# Altium schematic symbol library Symbol_library.SCHLIB: 171 symbols (part 2 of 2)
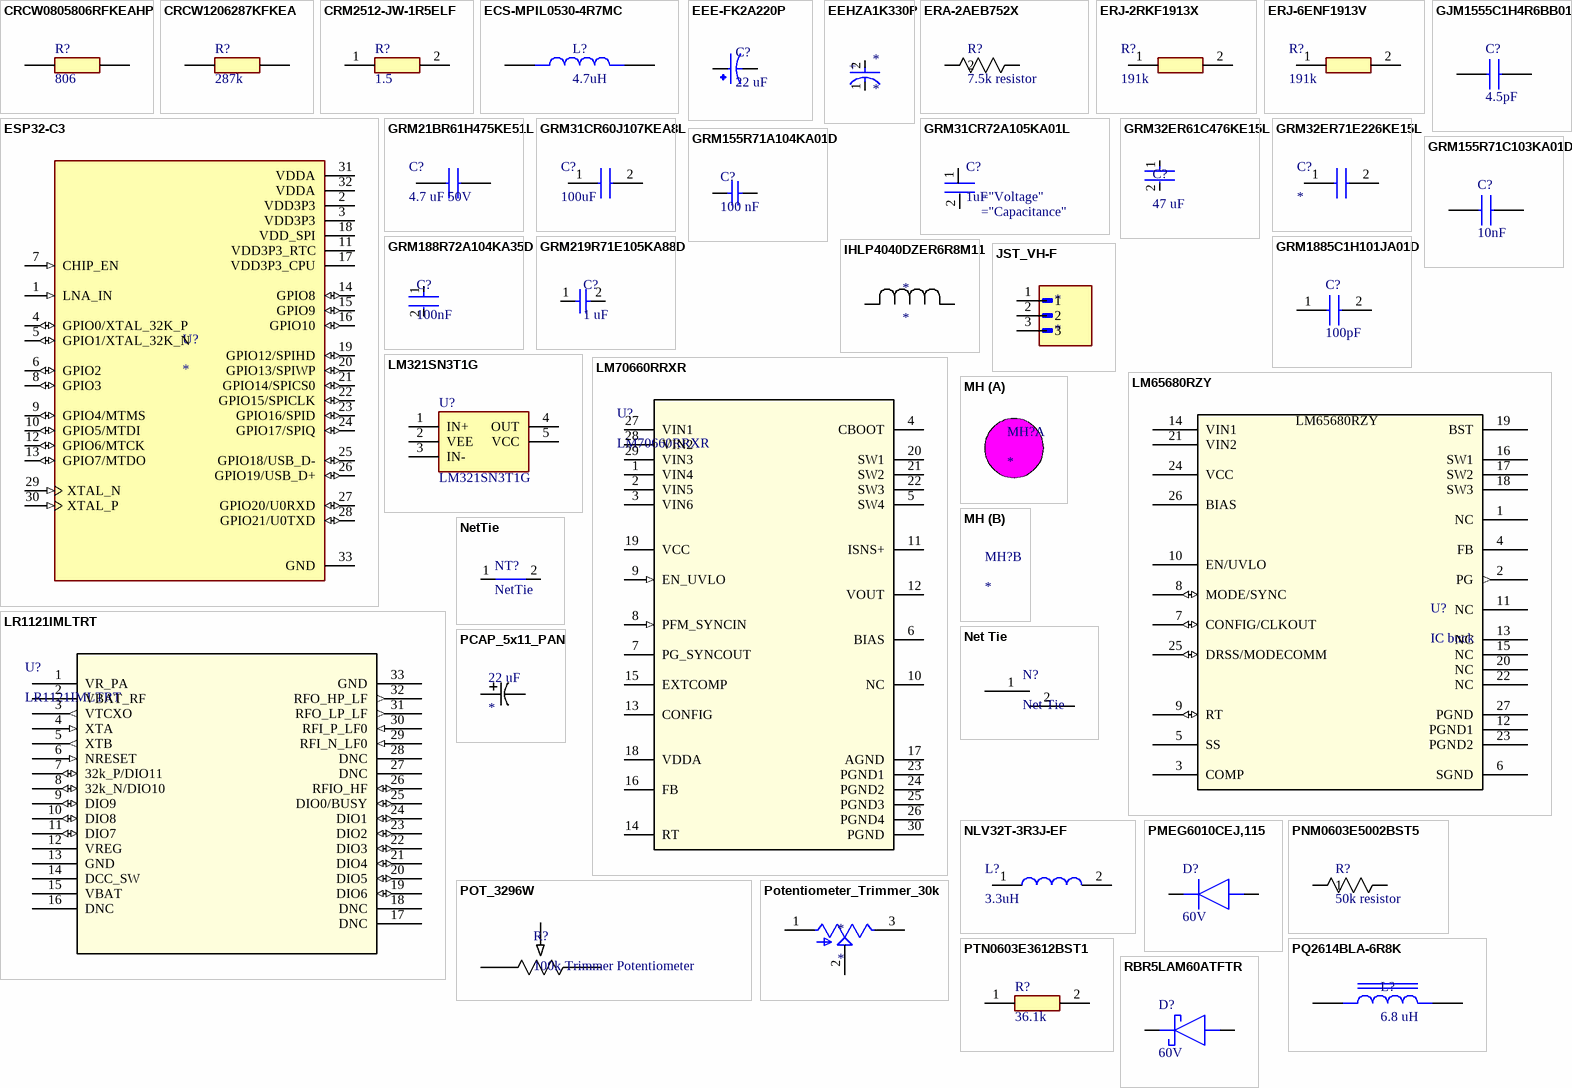
[diagram p5: symbols CRCW0805806RFKEAHP to RBR5LAM60ATFTR]

## PTN0603E3612BST1
designator R?, comment 36.1k
Resistor; Manufacturer_Name: Vishay; Manufacturer_Part_Number: PTN0603E3612BST1; Datasheet Link: http://www.vishay.com/docs/60026/ptn.pdf; Height: 0.508mm
footprint RESC1608X51N
pins: 1, 2

## RBR5LAM60ATFTR
designator D?, comment 60V
Schottky Diode; Manufacturer_Name: ROHM Semiconductor; Manufacturer_Part_Number: RBR5LAM60ATFTR; Datasheet Link: https://fscdn.rohm.com/en/products/databook/datasheet/discrete/diode/schottky_barrier/rbr5lam60atftr-e.pdf; Height: 1.05mm; Mouser Part Number: 755-RBR5LAM60ATFTR; Mouser Price/Stock: https://www.mouser.co.uk/ProductDetail/ROHM-Semiconductor/RBR5LAM60ATFTR?qs=4v%252BiZTmLVHGKJkO8tMW4zA%3D%3D; ClassName: PowerModul
footprint SODFL4725X105N
pins: 1 K, 2 A

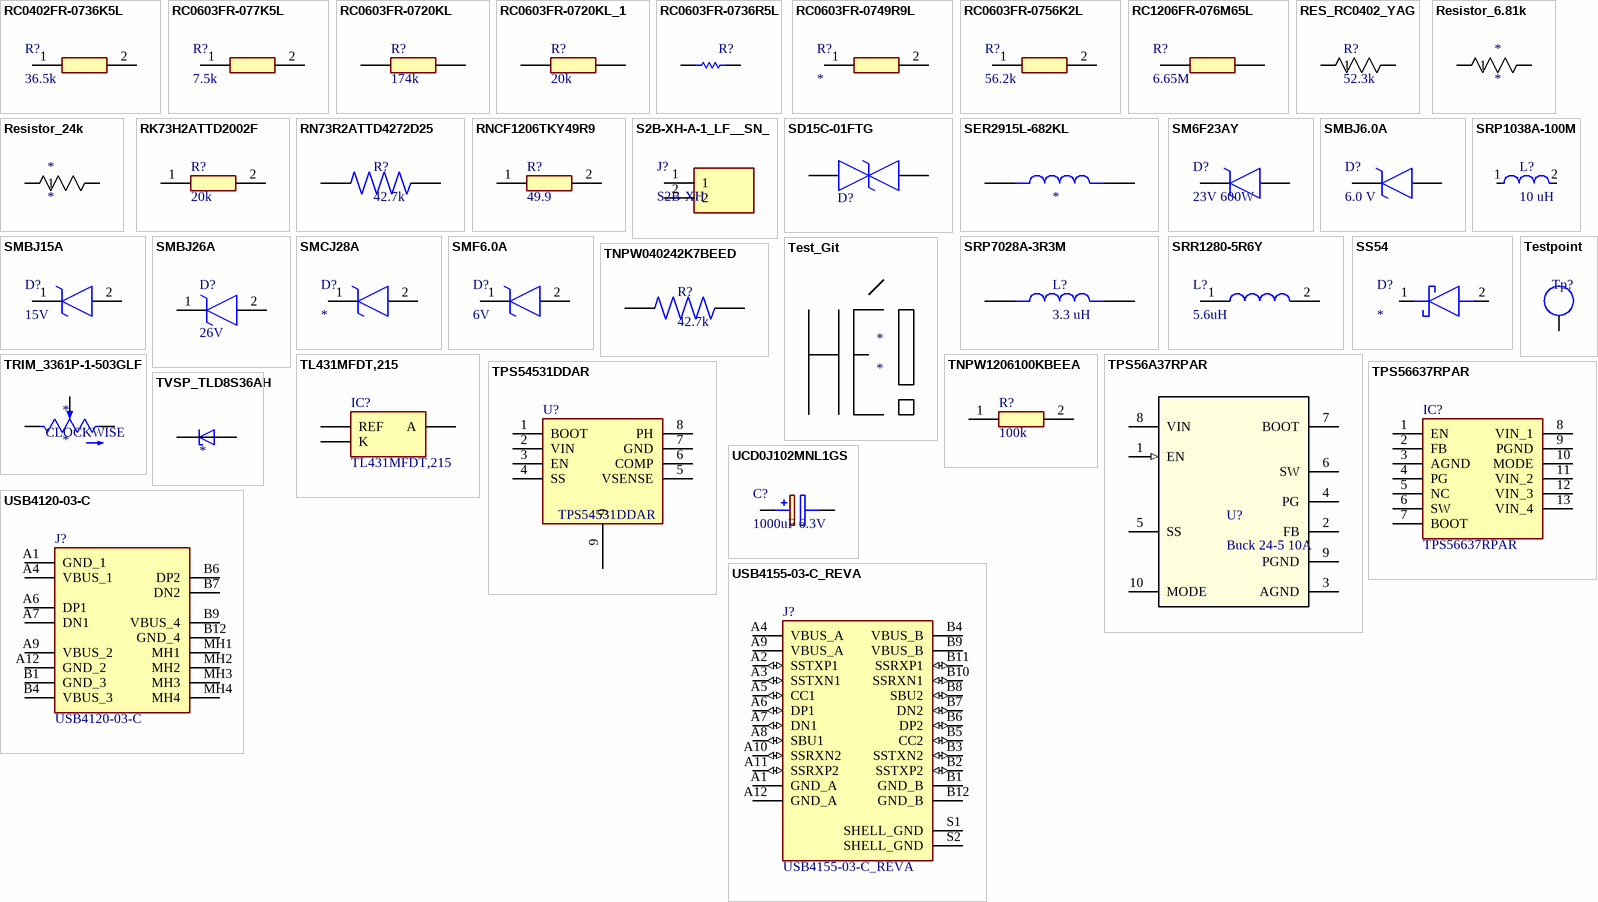
[diagram p3: symbols RC0402FR-0736K5L to USB4155-03-C_REVA]

## RC0402FR-0736K5L
designator R?, comment 36.5k
Resistor; Manufacturer_Name: KEMET; Manufacturer_Part_Number: RC0402FR-0736K5L; Datasheet Link: http://www.yageo.com/documents/recent/PYu-RC0402_51_RoHS_L_6_r.pdf; Height: 0.4mm; Mouser Part Number: 603-RC0402FR-0736K5L; Mouser Price/Stock: https://www.mouser.com/Search/Refine.aspx?Keyword=603-RC0402FR-0736K5L
footprint RESC1005X40N
pins: 1, 2

## RC0603FR-077K5L
designator R?, comment 7.5k
Resistor; Manufacturer_Name: KEMET; Manufacturer_Part_Number: RC0603FR-077K5L; Datasheet Link: http://www.yageo.com/documents/recent/PYu-RC0603_51_RoHS_L_v5.pdf; Height: 0.55mm; Mouser Part Number: 603-RC0603FR-077K5L; Mouser Price/Stock: https://www.mouser.co.uk/ProductDetail/Yageo/RC0603FR-077K5L/?qs=2cAdsCoAWREF%252BylA0TXaCQ%3D%3D
footprint RESC1608X55N
pins: 1, 2

## RC0603FR-0720KL
designator R?, comment 174k
Resistor; Manufacturer_Name: KEMET; Manufacturer_Part_Number: RC0603FR-0720KL; Datasheet Link: http://www.yageo.com/documents/recent/PYu-RC0603_51_RoHS_L_v5.pdf; Height: 0.55mm; Mouser Part Number: 603-RC0603FR-0720KL; Mouser Price/Stock: https://www.mouser.co.uk/ProductDetail/YAGEO/RC0603FR-0720KL?qs=VU8sRB4EgwCsxfrjtEIKPQ%3D%3D; Arrow Part Number: RC0603FR-0720KL; Arrow Price/Stock: https://www.arrow.com/en/products/rc0603fr-0720kl/yageo
footprint RESC1608X55N
pins: 1, 2

## RC0603FR-0720KL_1
designator R?, comment 20k
Resistor; Manufacturer_Name: KEMET; Manufacturer_Part_Number: RC0603FR-0720KL; Datasheet Link: http://www.yageo.com/documents/recent/PYu-RC0603_51_RoHS_L_v5.pdf; Height: 0.55mm; Mouser Part Number: 603-RC0603FR-0720KL; Mouser Price/Stock: https://www.mouser.co.uk/ProductDetail/YAGEO/RC0603FR-0720KL?qs=VU8sRB4EgwCsxfrjtEIKPQ%3D%3D; Arrow Part Number: RC0603FR-0720KL; Arrow Price/Stock: https://www.arrow.com/en/products/rc0603fr-0720kl/yageo
footprint RESC1608X55N
pins: 1, 2

## RC0603FR-0736R5L
designator R?
36.5 Ohm
footprint RC0603FR-0736R5L
pins: 1, 2

## RC0603FR-0749R9L
designator R?
Resistor; Manufacturer_Name: Yageo Group; Manufacturer_Part_Number: RC0603FR-0749R9L; Datasheet Link: https://www.yageo.com/upload/media/product/productsearch/datasheet/rchip/PYu-RC_Group_51_RoHS_L_12.pdf; Height: 0.55mm; Mouser Part Number: 603-RC0603FR-0749R9L; Mouser Price/Stock: https://www.mouser.co.uk/ProductDetail/YAGEO/RC0603FR-0749R9L?qs=NEN%2FsE%2FLsvNRW8WFDtCPgQ%3D%3D; Arrow Part Number: RC0603FR-0749R9L; Arrow Price/Stock: https://www.arrow.com/en/products/rc0603fr-0749r9l/yageo?region=europe
footprint RESC1608X55N
pins: 1, 2

## RC0603FR-0756K2L
designator R?, comment 56.2k
Resistor; Manufacturer_Name: KEMET; Manufacturer_Part_Number: RC0603FR-0756K2L; Datasheet Link: http://www.yageo.com/documents/recent/PYu-RC0603_51_RoHS_L_v5.pdf; Height: 0.55mm; Mouser Part Number: 603-RC0603FR-0756K2L; Mouser Price/Stock: https://www.mouser.com/Search/Refine.aspx?Keyword=603-RC0603FR-0756K2L; Arrow Part Number: RC0603FR-0756K2L; Arrow Price/Stock: https://www.arrow.com/en/products/rc0603fr-0756k2l/yageo
footprint RESC1608X55N
pins: 1, 2

## RC1206FR-076M65L
designator R?, comment 6.65M
Resistor; Manufacturer_Name: YAGEO; Manufacturer_Part_Number: RC1206FR-076M65L; Datasheet Link: https://www.mouser.com/datasheet/2/447/PYu-RC_Group_51_RoHS_L_9-1314892.pdf; Height: 0.65mm
footprint RESC3116X65N (Footprint not found)
pins: 1, 2

## RES_RC0402_YAG
designator R?, comment 52.3k
52.3k Resistor 50 V 1% tolerance; ComponentLink1Description: Digikey Link; ComponentLink1URL: https://www.digikey.ca/en/products/detail/yageo/RC0402FR-0752K3L/5281039
footprint RES_RC0402_YAG
pins: 1, 2

## Resistor_6.81k
designator *
ComponentLink1Description: New link; ComponentLink1URL: *; ComponentLink2Description: Manufacturer Link; ComponentLink2URL: https://www.digikey.ca/en/products/detail/yageo/MFR-25FRF52-6K81/14969
footprint RES_MFR25_6P3X2P4_YAG
pins: 1, 2

## Resistor_24k
designator *
ComponentLink1Description: Manufacturer Link; ComponentLink1URL: https://www.digikey.ca/en/products/detail/stackpole-electronics-inc/CF14JT24K0/1741359
footprint STA_CF14_STP
pins: 1, 2

## RK73H2ATTD2002F
designator R?, comment 20k
Resistor; Manufacturer_Name: KOA Speer; Manufacturer_Part_Number: RK73H2ATTD2002F; Datasheet Link: http://www.koaspeer.com/catimages/Products/RK73H/RK73H.pdf; Height: 0.6mm; Mouser Part Number: 660-RK73H2ATTD2002F; Mouser Price/Stock: https://www.mouser.com/Search/Refine.aspx?Keyword=660-RK73H2ATTD2002F
footprint RESC2012X60N
pins: 1, 2

## RN73R2ATTD4272D25
designator R?, comment 42.7k
MP: RN73R2ATTD4272D25; Package: None; Price: None; Value: *; Availability: Unavailable
footprint RESC2012X60N
pins: 1, 2

## RNCF1206TKY49R9
designator R?, comment 49.9
Resistor; Manufacturer_Name: Stackpole Electronics; Manufacturer_Part_Number: RNCF1206TKY49R9; Datasheet Link: https://www.seielect.com/catalog/sei-rncf.pdf; Height: 0.65mm; Mouser Part Number: 708-RNCF1206TKY49R9; Mouser Price/Stock: https://www.mouser.co.uk/ProductDetail/SEI-Stackpole/RNCF1206TKY49R9?qs=IPgv5n7u5QbrkyDMq71eTQ%3D%3D; Arrow Part Number: RNCF1206TKY49R9; Arrow Price/Stock: https://www.arrow.com/en/products/rncf1206tky49r9/stackpole-electronics?region=nac
footprint RESC3016X65N
pins: 1, 2

## S2B-XH-A-1_LF__SN_
designator J?, comment S2B-XH
horizontal 2 pin; Manufacturer_Name: JST (JAPAN SOLDERLESS TERMINALS); Manufacturer_Part_Number: S2B-XH-A-1(LF)(SN); Datasheet Link: http://www.jst-mfg.com/product/pdf/eng/eXH.pdf; Height: 6.1mm; Mouser Part Number: 306-S2BXHA1LFSN; Mouser Price/Stock: https://www.mouser.co.uk/ProductDetail/JST-Commercial/S2B-XH-A-1LFSN?qs=QpmGXVUTftHhNeC%252BPQWeTw%3D%3D
footprint S2BXHA1LFSN
pins: 1, 2

## SD15C-01FTG
designator D?  (value not drawn)
TVS Diode (Bi-directional); Manufacturer_Name: LITTELFUSE; Datasheet Link: https://www.arrow.com/en/products/sd15c-01ftg/littelfuse; Height: 1.14mm; Manufacturer_Part_Number: SD15C-01FTG; Mouser Part Number: 576-SD15C-01FTG; Mouser Price/Stock: https://www.mouser.co.uk/ProductDetail/Littelfuse/SD15C-01FTG?qs=4zl93aaztU8pjSvpxpJP6g%3D%3D; Arrow Part Number: SD15C-01FTG; Arrow Price/Stock: https://www.arrow.com/en/products/sd15c-01ftg/littelfuse?region=nac
footprint SD15C01FTG
pins: 1, 2

## SER2915L-682KL
designator ?
footprint SER2915L-682
pins: 1, 2

## SM6F23AY
designator D?, comment 23V 600W
TVS Diode (Uni-directional); Manufacturer_Name: STMicroelectronics; Manufacturer_Part_Number: SM6F23AY; Datasheet Link: https://www.st.com/resource/en/datasheet/sm6f10ay.pdf; Height: 1.03mm; Mouser Part Number: 511-SM6F23AY; Mouser Price/Stock: https://www.mouser.co.uk/ProductDetail/STMicroelectronics/SM6F23AY?qs=BJlw7L4Cy79cZKdhit2Bog%3D%3D
footprint SM6F22AY
pins: 1 K, 2 A

## SMBJ6.0A
designator D?, comment 6.0 V
TVS Diode (Uni-directional); Manufacturer_Name: STMicroelectronics; Manufacturer_Part_Number: SMBJ6.0A; Datasheet Link: https://www.st.com/resource/en/datasheet/smbj12a.pdf; Height: 2.45mm
footprint SMBJ12A
pins: 1 K, 2 A

## SMBJ15A
designator D?, comment 15V
TVS Diode (Uni-directional); Manufacturer_Name: Vishay; Manufacturer_Part_Number: SMBJ15A; Datasheet Link: http://www.vishay.com/docs/88392/smbj.pdf; Height: 2.44mm; Mouser Part Number: 78-SMBJ15A; Mouser Price/Stock: https://www.mouser.co.uk/ProductDetail/Vishay-General-Semiconductor/SMBJ15A?qs=%252BA9HMDDz5KavBY56EO7ceQ%3D%3D
footprint DIOM5436X244N
pins: 1 K, 2 A

## SMBJ26A
designator D?, comment 26V
TVS Diode (Uni-directional); Manufacturer_Name: Bourns; Manufacturer_Part_Number: SMBJ26A; Datasheet Link: https://www.bourns.com/docs/product-datasheets/smbj.pdf?sfvrsn=34552159_17; Height: 2.44mm; Mouser Part Number: 652-SMBJ26A; Mouser Price/Stock: https://www.mouser.co.uk/ProductDetail/Bourns/SMBJ26A?qs=%252Bf8Cd6aE5bzyuNXx4QjGJA%3D%3D; Arrow Part Number: SMBJ26A; Arrow Price/Stock: https://www.arrow.com/en/products/smbj26a/bourns?utm_currency=USD&region=nac
footprint DIOM5436X244N (Footprint not found)
pins: 1 K, 2 A

## SMCJ28A
designator D?
TVS Diode (Uni-directional); Manufacturer_Name: Bourns; Manufacturer_Part_Number: SMCJ28A; Datasheet Link: https://componentsearchengine.com/Datasheets/2/SMCJ28A.pdf; Height: 2.62mm; Mouser Part Number: 652-SMCJ28A; Mouser Price/Stock: https://www.mouser.co.uk/ProductDetail/Bourns/SMCJ28A?qs=%252Bf8Cd6aE5bxVNvhMry4%2FeQ%3D%3D; Arrow Part Number: SMCJ28A; Arrow Price/Stock: https://www.arrow.com/en/products/smcj28a/bourns?region=nac
footprint DIOM7959X262N (Footprint not found)
pins: 1 K, 2 A

## SMF6.0A
designator D?, comment 6V
TVS Diode (Uni-directional); Manufacturer_Name: Diotec; Manufacturer_Part_Number: SMF6.0A; Datasheet Link: https://www.mouser.cn/ProductDetail/Diotec-Semiconductor/SMF6.0A?qs=OlC7AqGiEDnWjoz6bXl5LA%3D%3D; Height: 1.4mm; Mouser Part Number: 637-SMF6.0A; Mouser Price/Stock: https://www.mouser.co.uk/ProductDetail/Diotec-Semiconductor/SMF6.0A?qs=OlC7AqGiEDnWjoz6bXl5LA%3D%3D; Arrow Part Number: SMF6.0A; Arrow Price/Stock: https://www.arrow.com/en/products/smf6.0a/diotec-semiconductor-ag?utm_currency=USD&region=nac
footprint SODFL3718X140N
pins: 1 K, 2 A

## SRP1038A-100M
designator L?, comment 10 uH
footprint SRP1038A-100M
pins: 1, 2

## SRP7028A-3R3M
designator L?, comment 3.3 uH
Inductance 3.3uH 6 A SMD; ComponentLink1Description: Digikey Link; ComponentLink1URL: https://www.digikey.com/en/products/detail/bourns-inc/SRP7028A-3R3M/4876647
footprint IND_RC-7
pins: 1, 2

## SRR1280-5R6Y
designator L?, comment 5.6uH
Inductor; Manufacturer_Name: Bourns; Manufacturer_Part_Number: SRR1280-5R6Y; Datasheet Link: https://docs.rs-online.com/c0b9/0900766b80ddd400.pdf; Height: 8mm; Mouser Part Number: 652-SRR1280-5R6Y; Mouser Price/Stock: https://www.mouser.co.uk/ProductDetail/Bourns/SRR1280-5R6Y?qs=brMhP%2FMjUffYaqEo5zomkw%3D%3D
footprint INDPM125125X800N
pins: 1, 2

## SS54
designator D?
Schottky Diode; Manufacturer_Name: DIYI Elec Tech; Manufacturer_Part_Number: SS54; Datasheet Link: https://datasheet.lcsc.com/szlcsc/DIYI-Elec-Tech-SS54_C84165.pdf; Height: 2.62mm
footprint DIOM5026X262N
pins: 1 K, 2 A

## Test_Git
designator *

## Testpoint
designator Tp?  (value not drawn)  (no BOM)
footprint Testpoint
pins: TP

## TL431MFDT,215
designator IC?
Integrated Circuit; Manufacturer_Name: Nexperia; Datasheet Link: https://assets.nexperia.com/documents/data-sheet/TL431_FAM.pdf; Height: 1.1mm; Manufacturer_Part_Number: TL431MFDT,215; Mouser Part Number: 771-TL431MFDT215; Mouser Price/Stock: https://www.mouser.co.uk/ProductDetail/Nexperia/TL431MFDT215?qs=A1cBxND5mHKvFzVl3lBdcQ%3D%3D; Arrow Part Number: TL431MFDT,215; Arrow Price/Stock: https://www.arrow.com/en/products/tl431mfdt215/nexperia?utm_currency=USD&region=nac
footprint SOT95P230X110-3N
pins: 1 REF, 2 K, 3 A

## TNPW040242K7BEED
designator R?, comment 42.7k
MP: TNPW040242K7BEED; Package: None; Price: None; Value: *; Availability: Unavailable
footprint RESC1005X40N
pins: 1, 2

## TNPW1206100KBEEA
designator R?, comment 100k
Resistor; Manufacturer_Name: Vishay; Manufacturer_Part_Number: TNPW1206100KBEEA; Datasheet Link: http://componentsearchengine.com/Datasheets/1/TNPW1206100KBEEA.pdf; Mouser Part Number: 71-TNPW1206100KBEEA; Mouser Price/Stock: https://www.mouser.co.uk/ProductDetail/Vishay-Dale/TNPW1206100KBEEA?qs=3e%2FgEgHITqD1A8tWsKQhKA%3D%3D; Arrow Part Number: TNPW1206100KBEEA; Arrow Price/Stock: https://www.arrow.com/en/products/tnpw1206100kbeea/vishay; ComponentLink1Description: Digikey Link; ComponentLink1URL: https://www.digikey.com/en/products/detail/vishay-dale/TNPW1206100KBEEA/1608081
footprint RESC3216X71N (Footprint not found)
pins: 1, 2

## TPS56A37RPAR
designator U?, comment Buck 24-5 10A
26V--5V Buck converter 10 A; ComponentLink1Description: Digikey Link; ComponentLink1URL: https://www.digikey.ca/en/products/detail/texas-instruments/TPS56A37RPAR/22255277
footprint RPA0010A-MFG
pins: 1 EN (in), 2 FB, 3 AGND (power), 4 PG (oc), 5 SS, 6 SW, 7 BOOT, 8 VIN (power), 9 PGND (power), 10 MODE

## TPS54531DDAR
designator U?
Power Supply; Manufacturer_Name: Texas Instruments; Datasheet Link: http://www.ti.com/lit/gpn/tps54531; Height: 1.7mm; Manufacturer_Part_Number: TPS54531DDAR; Mouser Part Number: 595-TPS54531DDAR; Mouser Price/Stock: https://www.mouser.co.uk/ProductDetail/Texas-Instruments/TPS54531DDAR?qs=jA5Ki6243onykODzUePbag%3D%3D; Arrow Part Number: TPS54531DDAR; Arrow Price/Stock: https://www.arrow.com/en/products/tps54531ddar/texas-instruments?utm_currency=USD&region=nac
footprint SOIC127P600X175-8N
pins: 1 BOOT, 2 VIN, 3 EN, 4 SS, 5 VSENSE, 6 COMP, 7 GND, 8 PH, 9

## TPS56637RPAR
designator IC?
Integrated Circuit; Manufacturer_Name: Texas Instruments; Datasheet Link: https://www.ti.com/lit/gpn/TPS56637; Height: 1mm; Manufacturer_Part_Number: TPS56637RPAR; Mouser Part Number: 595-TPS56637RPAR; Mouser Price/Stock: https://www.mouser.co.uk/ProductDetail/Texas-Instruments/TPS56637RPAR?qs=9r4v7xj2LnkQ0Y9HL0qmSA%3D%3D; Arrow Part Number: TPS56637RPAR; Arrow Price/Stock: https://www.arrow.com/en/products/tps56637rpar/texas-instruments?utm_currency=USD&region=nac
footprint TPS56637RPAR
pins: 1 EN, 2 FB, 3 AGND, 4 PG, 5 NC, 6 SW, 7 BOOT, 8 VIN_1, 9 PGND, 10 MODE, 11 VIN_2, 12 VIN_3, 13 VIN_4

## TRIM_3361P-1-503GLF
designator *
Potentiometer 50k ohms; ComponentLink1Description: Manufacturer Link; ComponentLink1URL: https://www.digikey.ca/en/products/detail/bourns-inc/3361P-1-503GLF/1088375
footprint TRIM_3361P-1-503GLF
pins: 1 CCW, 2 WIPER, 3 CW
text: CLOCKWISE

## TVSP_TLD8S36AH
designator ?
Diode TVS 2800 W Unidirectionnelle; ComponentLink1Description: Manufacturer Link; ComponentLink1URL: https://www.digikey.ca/en/products/detail/taiwan-semiconductor-corporation/TLD5S36AH/9659228
footprint TVSP_TLD8S36AH
pins: A, C

## UCD0J102MNL1GS
designator C?, comment 1000uF 6.3V
Capacitor Polarised; Manufacturer_Name: Nichicon; Manufacturer_Part_Number: UCD0J102MNL1GS; Datasheet Link: https://www.nichicon.co.jp/english/products/pdfs/e-ucd.pdf; Height: 10.5mm; Mouser Part Number: 647-UCD0J102MNL1GS; Mouser Price/Stock: https://www.mouser.co.uk/ProductDetail/Nichicon/UCD0J102MNL1GS?qs=c0uEScvPYN2yS0opD8R0vQ%3D%3D; Arrow Part Number: UCD0J102MNL1GS; Arrow Price/Stock: https://www.arrow.com/en/products/ucd0j102mnl1gs/nichicon
footprint CAPAE830X1050N (Footprint not found)
pins: 1 +, 2 -

## USB4120-03-C
designator J?
Connector; Manufacturer_Name: GCT (GLOBAL CONNECTOR TECHNOLOGY); Datasheet Link: https://gct.co/connector/usb4120; Height: 6.75mm; Manufacturer_Part_Number: USB4120-03-C; Mouser Part Number: 640-USB4120-03-C; Mouser Price/Stock: https://www.mouser.co.uk/ProductDetail/GCT/USB4120-03-C?qs=KUoIvG%2F9IlZaAd13sVDhkQ%3D%3D
footprint USB412003C
pins: A1 GND_1, A4 VBUS_1, A6 DP1, A7 DN1, A9 VBUS_2, A12 GND_2, B1 GND_3, B4 VBUS_3, B6 DP2, B7 DN2, B9 VBUS_4, B12 GND_4, MH1, MH2, MH3, MH4

## USB4155-03-C_REVA
designator J?
Package: None; Price: None; Availability: Unavailable; MP: USB4155-03-C_REVA; Value: *
footprint GCT_USB4155-03-C_REVA
pins: A1 GND_A (power), A2 SSTXP1 (io), A3 SSTXN1 (io), A4 VBUS_A (power), A5 CC1 (io), A6 DP1 (io), A7 DN1 (io), A8 SBU1 (io), A9 VBUS_A (power), A10 SSRXN2 (io), A11 SSRXP2 (io), A12 GND_A (power), B1 GND_B (power), B2 SSTXP2 (io), B3 SSTXN2 (io), B4 VBUS_B (power), B5 CC2 (io), B6 DP2 (io), B7 DN2 (io), B8 SBU2 (io), B9 VBUS_B (power), B10 SSRXN1 (io), B11 SSRXP1 (io), B12 GND_B (power), S1 SHELL_GND (power), S2 SHELL_GND (power)

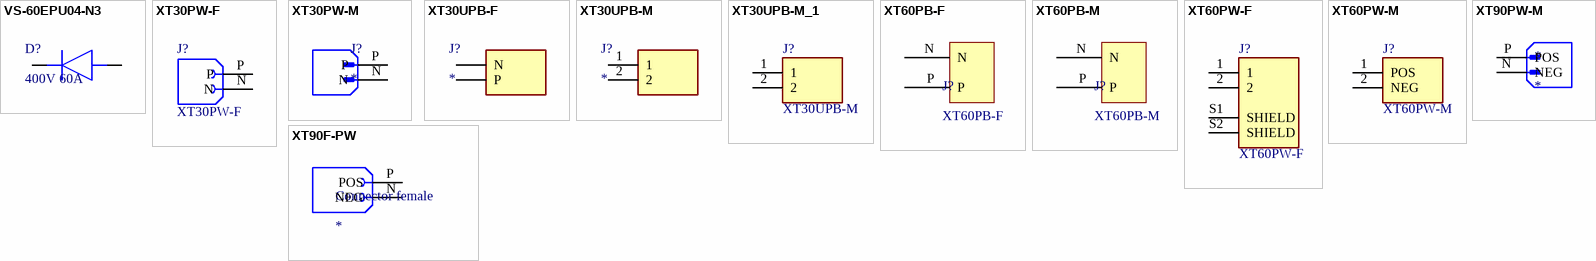
[diagram p4: symbols VS-60EPU04-N3 to XT90PW-M]

## VS-60EPU04-N3
designator D?, comment 400V 60A
Diode; Manufacturer_Name: Vishay; Manufacturer_Part_Number: VS-60EPU04-N3; Datasheet Link: https://www.vishay.com/docs/94022/vs-60epu04-n3.pdf; Height: 5.31mm
footprint TO1092P531X1558X2499-2P (Footprint not found)
pins: 1 K, 2 A

## XT30PW-F
designator J?
Socket; DC supply; XT30; female; PIN: 2; on PCBs; THT; yellow; 15A; MF: amass; SnapEDA_Link: https://www.snapeda.com/parts/XT30PW-F/AMASS/view-part/?ref=snap; Package: None; Value: *; MP: XT30PW-F; Check_prices: https://www.snapeda.com/parts/XT30PW-F/AMASS/view-part/?ref=eda
footprint AMASS_XT30PW-F
pins: N (power), P (power)

## XT30PW-M
designator J?
Socket; DC supply; XT30; male; PIN: 2; on PCBs; THT; Colour: yellow; MF: AMASS; MP: XT30PW-M; SnapEDA_Link: https://www.snapeda.com/parts/XT30PW-M/AMASS/view-part/?ref=snap; Package: None; Value: *; Check_prices: https://www.snapeda.com/parts/XT30PW-M/AMASS/view-part/?ref=eda
footprint AMASS_XT30PW-M
pins: N (power), P (power)

## XT30UPB-F
designator J?
Connector; Manufacturer_Name: Amass; Manufacturer_Part_Number: XT30UPB-F; Datasheet Link: https://www.tme.eu/Document/81f11ca924696756331f21b972812074/XT30PB-F.pdf; Height: 9.4mm
footprint XT30UPBF
pins: 1 P, 2 N

## XT30UPB-M
designator J?
Connector; Manufacturer_Name: Amass; Manufacturer_Part_Number: XT30UPB-M; Datasheet Link: https://www.tme.eu/Document/4acc913878197f8c2e30d4b8cdc47230/XT30UPB%20SPEC.pdf; Height: 10.7mm
footprint SHDR2W160P0X500_1X2_1020X520X1070P (Footprint not found)
pins: 1, 2

## XT30UPB-M_1
designator J?, comment XT30UPB-M
Connector; Manufacturer_Name: Amass; Datasheet Link: https://www.tme.eu/Document/4acc913878197f8c2e30d4b8cdc47230/XT30UPB%20SPEC.pdf; Height: 10.7mm; Manufacturer_Part_Number: XT30UPB-M
footprint SHDR2W160P0X500_1X2_1020X520X1070P (Footprint not found)
pins: 1, 2

## XT60PB-F
designator J?
Connector; ComponentLink1Description: Datasheet; ComponentLink1URL: https://www.tme.com/Document/aa7a0328674fda4109d00dc748bb5162/XT60UPB-F.pdf
footprint XT60PB-F (Connector)
pins: N, P

## XT60PB-M
designator J?
Connector; ComponentLink1Description: Datasheet; ComponentLink1URL: https://www.tme.com/Document/ceb306d6300f4d2860483975b79af125/XT60UPB-M.pdf
footprint XT60PB-M (Connector)
pins: N, P

## XT60PW-F
designator J?
Socket DC Supply Connector Female; MF: AMASS; SnapEDA_Link: https://www.snapeda.com/parts/XT60PW-F/AMASS/view-part/?ref=snap; Package: Package; Availability: Not in stock; Price: None; Check_prices: https://www.snapeda.com/parts/XT60PW-F/AMASS/view-part/?ref=eda; MP: XT60PW-F; Value: *
footprint AMASS_XT60PW-F
pins: 1, 2, S1 SHIELD, S2 SHIELD

## XT60PW-M
designator J?
Socket, DC supply, male, PIN: 2; MF: AMASS; Check_prices: https://www.snapeda.com/parts/XT60PW-M/AMASS/view-part/?ref=eda; SnapEDA_Link: https://www.snapeda.com/parts/XT60PW-M/AMASS/view-part/?ref=snap; Price: None; Availability: Not in stock; Package: Package; MP: XT60PW-M; Value: *
footprint AMASS_XT60PW-M
pins: 1 POS, 2 NEG

## XT90F-PW
designator Connector female
footprint AMASS_XT90PW-F
pins: N NEG, P POS

## XT90PW-M
designator *
XT90 horizontal male
footprint AMASS_XT90PW-M
pins: N NEG, P POS